# Altium schematic symbol library TPS7A8001.SchLib: 1 symbol
Pins are listed as number, name and electrical type; pins without a type are passive.

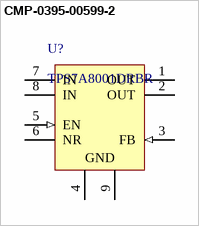
[diagram p0: symbol CMP-0395-00599-2]

## CMP-0395-00599-2
designator U?, comment TPS7A8001DRBR
Single Output LDO, 1 A, Adjustable 0.8 to 6 V Output, 2.2 to 6.5 V Input, with High-Bandwidth PSRR, 8-pin SON (DRB), -40 to 125 degC, Green (RoHS & no Sb/Br); Manufacturer: Texas Instruments; Iout(Max)(A): 1; Vin(Max)(V): 6.5; SubFamily: Single Channel LDO; Vdo(Typ)(mV): 170; Vout Adj(Min)(V): 0.8; Vin(Min)(V): 2.2; Accuracy(%): 3; Iq(Typ)(mA): 0.04; Vout Adj(Max)(V): 6; DatasheetVersion: SBVS135G; ComponentLink1Description: Manufacturer URL; ComponentLink1URL: http://www.ti.com/; PartNumber: TPS7A8001DRBR; Eco-Plan: Green (RoHS & no Sb/Br); PackageVersion: 4203482-2/K; PackageReference: DRB0008A; ComponentLink3Description: Package Specification; PackageDescription: 8-Pin Plastic Small Outline, Body 3 x 3 mm, Pitch 0.65 mm; ComponentLink2URL: http://www.ti.com/general/docs/lit/getliterature.tsp?genericPartNumber=TPS7A8001&fileType=pdf; ComponentLink2Description: Datasheet; Mounting Technology: Surface Mount; ComponentLink3URL: http://www.ti.com/litv/pdf/mpds118h
footprint DRB0008A_V (SON, 8-Leads, Body 3x3mm, Pitch 0.65mm, Thermal Pad 1.50 x 3.8mm)
pins: 1 OUT (power) "Regulator output. A 4.7 uF or larger capacitor of any type is required for stability.", 2 OUT (power) "Regulator output. A 4.7 uF or larger capacitor of any type is required for stability.", 3 FB (in) "Adjustable voltage version only. This pin is the input to the control loop error amplifier and is used to set the output voltage of the device.", 4 GND (power) "Ground.", 5 EN (in) "Driving the enable pin (EN) high turns on the regulator. Driving this pin low puts the regulator into shutdown mode. Refer to Shutdown in the Application Information section for more details. EN must not be left floating and (See Datasheet)", 6 NR "Connect an external capacitor between this pin and ground to reduce output noise to very low levels. Also, the capacitor slows down the VOUT ramp (RC softstart).", 7 IN (power) "Unregulated input supply.", 8 IN (power) "Unregulated input supply.", 9 GND (power) "Ground."